# EAGLE library part MCP23018-E/MJ (library MCP23018-E_MJ)
None
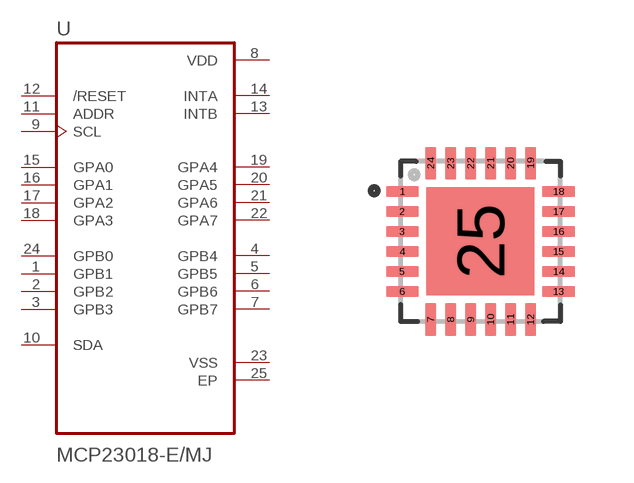
[diagram p0: symbol with the pads of QFN50P400X400X90-25N; footprint QFN50P400X400X90-25N]

Designator prefix U

## MCP23018-E/MJ (Availability: Unavailable; Description: MCP23018 Series 5.5 V 3.4 MHz SMT 16-Bit I2C I/O Expander -QFN-24; MF: Microchip; MP: MCP23018-E/MJ; Package: QFN-24 Microchip; Price: None)  [QFN50P400X400X90-25N]
1  GPB1
2  GPB2
3  GPB3
4  GPB4
5  GPB5
6  GPB6
7  GPB7
8  VDD  pwr
9  SCL  in
10  SDA
11  ADDR  in
12  /RESET  in
13  INTB  out
14  INTA  out
15  GPA0
16  GPA1
17  GPA2
18  GPA3
19  GPA4
20  GPA5
21  GPA6
22  GPA7
23  VSS  pwr
24  GPB0
25  EP  pwr

## Footprint QFN50P400X400X90-25N (pad centres in mm)
smd 0.81 x 0.27: 1 -1.955,1.25; 2 -1.955,0.75; 3 -1.955,0.25; 4 -1.955,-0.25; 5 -1.955,-0.75; 6 -1.955,-1.25; 13 1.955,-1.25; 14 1.955,-0.75; 15 1.955,-0.25; 16 1.955,0.25; 17 1.955,0.75; 18 1.955,1.25
smd 0.27 x 0.81: 7 -1.25,-1.955; 8 -0.75,-1.955; 9 -0.25,-1.955; 10 0.25,-1.955; 11 0.75,-1.955; 12 1.25,-1.955; 19 1.25,1.955; 20 0.75,1.955; 21 0.25,1.955; 22 -0.25,1.955; 23 -0.75,1.955; 24 -1.25,1.955
smd 2.7 x 2.7: 25 0,0